# EAGLE library part PM61300 (library MakeItLabs)
TRANSFORMER SMD converter and transformer acc. to customer specification
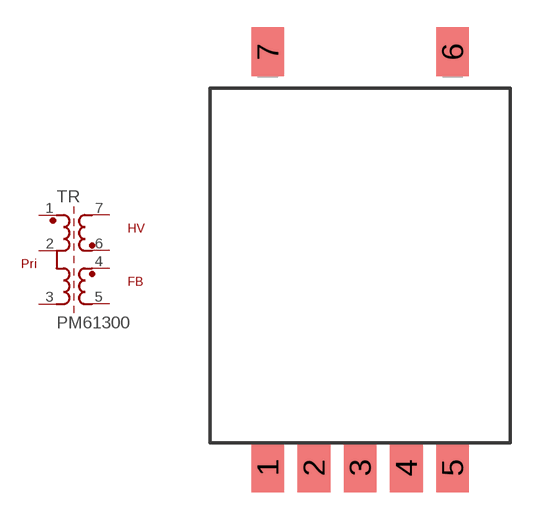
[diagram p7: symbol with the pads of PM6_CCFL; footprint PM6_CCFL]

Designator prefix TR

## PM61300 (OC_FARNELL: unknown; OC_NEWARK: unknown)  [PM6_CCFL]
1  1  pas
2  2  pas
3  3  pas
4  4  pas
5  5  pas
6  6  pas
7  7  pas

## Footprint PM6_CCFL (pad centres in mm)
SMD CONVERTER/TRANSFORMER acc. to customer specification, 20 x 22 x 12.6 mm
smd 1.8 x 2.7: 1 -5.08,-11.12; 2 -2.54,-11.12; 3 0,-11.12; 4 2.54,-11.12; 5 5.08,-11.12; 6 5.08,11.755; 7 -5.08,11.755